# EAGLE library part FT232R (library FTDI)
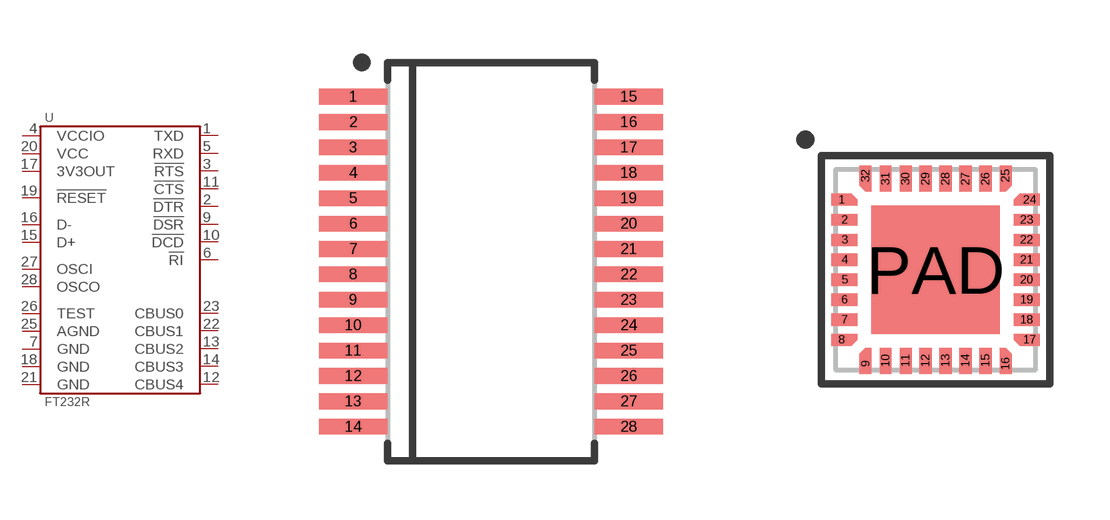
[diagram p0: symbol with the pads of SSOP-28; footprints SSOP-28, VQFN-32]

Designator prefix U

## FT232RL  [SSOP-28]
1  TXD
2  !DTR
3  !RTS
4  VCCIO
5  RXD
6  !RI
7  GND
9  !DSR
10  !DCD
11  !CTS
12  CBUS4
13  CBUS2
14  CBUS3
15  D+
16  D-
17  3V3OUT
18  GND
19  !RESET
20  VCC
21  GND
22  CBUS1
23  CBUS0
25  AGND
26  TEST
27  OSCI
28  OSCO

## FT232RQ  [VQFN-32]
1  VCCIO
2  RXD
3  !RI
4  GND
6  !DSR
7  !DCD
8  !CTS
9  CBUS4
10  CBUS2
11  CBUS3
14  D+
15  D-
16  3V3OUT
17  GND
18  !RESET
19  VCC
20  GND
21  CBUS1
22  CBUS0
24  AGND
26  TEST
27  OSCI
28  OSCO
30  TXD
31  !DTR
32  !RTS
PAD  GND

## Footprint SSOP-28 (pad centres in mm)
smd 1.75 x 0.4: 1 -3.525,4.225; 2 -3.525,3.575; 3 -3.525,2.925; 4 -3.525,2.275; 5 -3.525,1.625; 6 -3.525,0.975; 7 -3.525,0.325; 8 -3.525,-0.325; 9 -3.525,-0.975; 10 -3.525,-1.625; 11 -3.525,-2.275; 12 -3.525,-2.925; 13 -3.525,-3.575; 14 -3.525,-4.225; 15 3.525,4.225; 16 3.525,3.575; 17 3.525,2.925; 18 3.525,2.275; 19 3.525,1.625; 20 3.525,0.975; 21 3.525,0.325; 22 3.525,-0.325; 23 3.525,-0.975; 24 3.525,-1.625; 25 3.525,-2.275; 26 3.525,-2.925; 27 3.525,-3.575; 28 3.525,-4.225

## Footprint VQFN-32 (pad centres in mm)
smd 0.5 x 0.3: 1 -2.35,1.75; 8 -2.35,-1.75; 17 2.35,-1.75; 24 2.35,1.75
smd 0.65 x 0.3: 2 -2.275,1.25; 3 -2.275,0.75; 4 -2.275,0.25; 5 -2.275,-0.25; 6 -2.275,-0.75; 7 -2.275,-1.25; 18 2.275,-1.25; 19 2.275,-0.75; 20 2.275,-0.25; 21 2.275,0.25; 22 2.275,0.75; 23 2.275,1.25
smd 0.3 x 0.5: 9 -1.75,-2.35; 16 1.75,-2.35; 25 1.75,2.35; 32 -1.75,2.35
smd 0.3 x 0.65: 10 -1.25,-2.275; 11 -0.75,-2.275; 12 -0.25,-2.275; 13 0.25,-2.275; 14 0.75,-2.275; 15 1.25,-2.275; 26 1.25,2.275; 27 0.75,2.275; 28 0.25,2.275; 29 -0.25,2.275; 30 -0.75,2.275; 31 -1.25,2.275
smd 3.2 x 3.2: PAD 0,0